# Altium footprint library ASPI-1367-100M-T.PcbLib: 1 footprints
Each footprint in its own frame and in the unit in brackets; x right, y up, seen from the top. Pads: shape width x height; smd on the part's side, far side on the other; paste and mask are expansions set on the pad; w line width, h text height; cw(c..) or ccw(c..) is an arc to the next point about the centre after c.
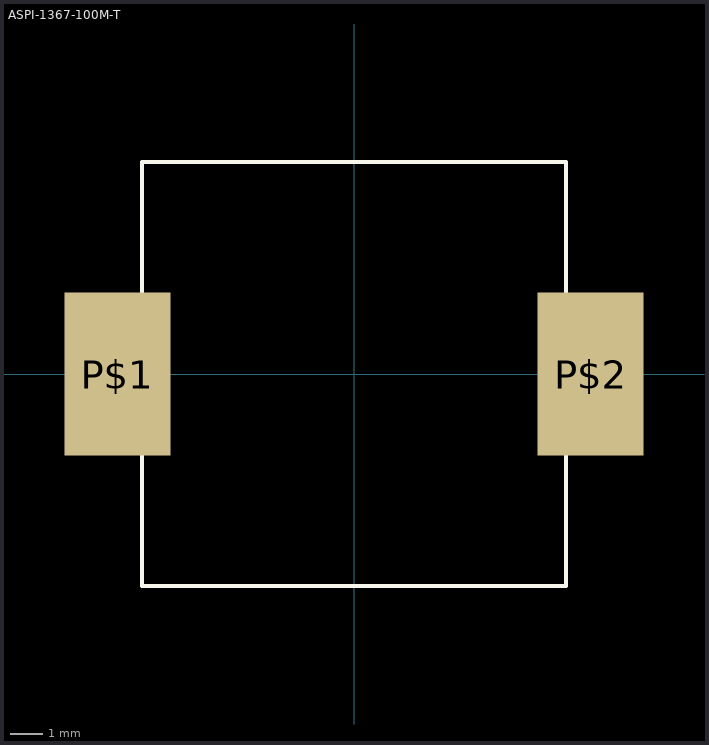
[diagram p0: the footprint, top view; thin cyan lines are the x and y axes]

## ASPI-1367-100M-T [mm]
pads (2):
  rect 3.25x5 smd: P$1(-7.25,0) P$2(7.25,0)
Top Overlay:
  lines w0.127: -6.5,-6.5 6.5,-6.5 6.5,6.5 -6.5,6.5 -6.5,-6.5
Mechanical 13:
  text "10uH" at -2,1 h1.27